# Altium footprint library APSS Connectors.PcbLib: 92 footprints (part 5 of 6)
Each footprint in its own frame and in the unit in brackets; x right, y up, seen from the top. Pads: shape width x height; smd on the part's side, far side on the other; paste and mask are expansions set on the pad; w line width, h text height; cw(c..) or ccw(c..) is an arc to the next point about the centre after c.
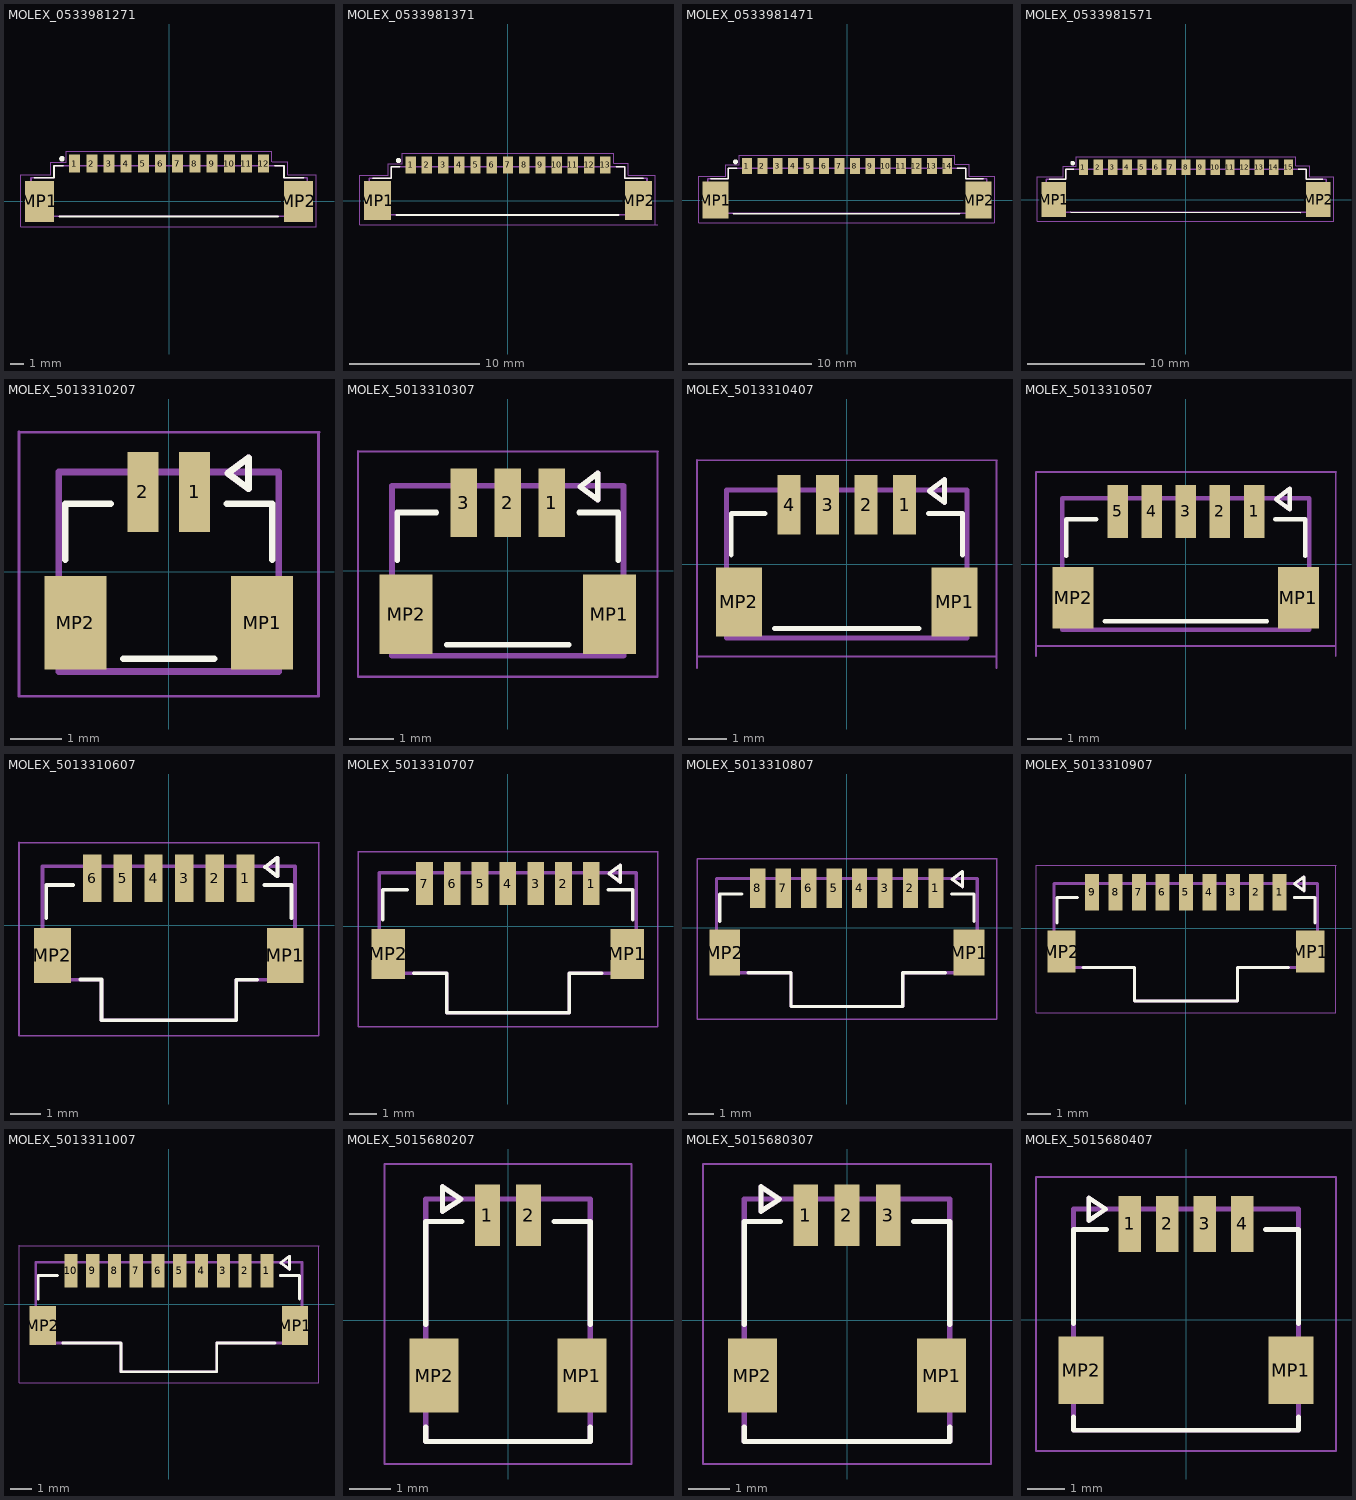
[diagram p4: the footprints below, top view; thin cyan lines are the x and y axes]

## MOLEX_0533981271 [mm] "Header - Picoblade 12-pin, SMT, STR, 4.7mm height"
height 4.7
pads (14):
  rect 0.8x1.3 smd mask+0.051: 1(-6.875,2.75) 2(-5.625,2.75) 3(-4.375,2.75) 4(-3.125,2.75) 5(-1.875,2.75) 6(-0.625,2.75) 7(0.625,2.75) 8(1.875,2.75) 9(3.125,2.75) 10(4.375,2.75) 11(5.625,2.75) 12(6.875,2.75)
  rect 2.1x3 smd mask+0.051: MP1(-9.425,0) MP2(9.405,0)
Top Overlay:
  circle w0.2: c-7.8,3.1 r0.1
  lines w0.127: -9.8,1.725 -8.375,1.725 -8.375,2.6 -7.7,2.6 ; -7.975,-1.1 7.925,-1.1 ; 7.68,2.6 8.355,2.6 8.355,1.725 9.78,1.725
Mechanical 13:
  lines w0.127: -7.8,2.6 8.355,2.6 ; -7.6,2.6 -8.375,2.6 -8.375,1.725 -10.05,1.725 -10.05,-1.075 10.05,-1.075 ; 7.48,2.6 8.355,2.6 ; 10.055,-1.075 10.055,1.725 8.355,1.725 8.355,2.6
Mechanical 15:
  lines w0.05: 7.475,3.65 -7.5,3.65 -7.5,2.85 -8.6,2.85 -8.6,1.95 -10.8,1.95 -10.8,-1.85 10.69,-1.85 10.69,1.95 8.63,1.95 8.63,2.9 7.49,2.9 ; 7.48,2.9 7.48,3.65
3D body "53398-1271--3DModel-STEP-361473.STEP": height 4.72, standoff -0.02, extent -10.075,-1.1 10.075,3.1

## MOLEX_0533981371 [mm] "Header - Picoblade 13-pin, SMT, STR, 4.7mm height"
height 4.7
pads (15):
  rect 0.8x1.3 smd mask+0.051: 1(-7.5,2.75) 2(-6.25,2.75) 3(-5,2.75) 4(-3.75,2.75) 5(-2.5,2.75) 6(-1.25,2.75) 7(0,2.75) 8(1.25,2.75) 9(2.5,2.75) 10(3.75,2.75) 11(5,2.75) 12(6.25,2.75) 13(7.5,2.75)
  rect 2.1x3 smd mask+0.051: MP1(-10.05,0) MP2(10.05,0)
Top Overlay:
  circle w0.2: c-8.425,3.1 r0.1
  lines w0.127: -10.425,1.725 -9,1.725 -9,2.6 -8.325,2.6 ; -8.6,-1.1 8.525,-1.1 ; 8.325,2.6 9,2.6 9,1.725 10.425,1.725
Mechanical 13:
  lines w0.127: -8.425,2.6 9,2.6 ; -8.225,2.6 -9,2.6 -9,1.725 -10.675,1.725 -10.675,-1.075 10.7,-1.075 10.7,1.725 9,1.725 9,2.6 ; 8.125,2.6 9,2.6
Mechanical 15:
  lines w0.05: 8.125,2.9 8.125,3.65 -8.125,3.65 -8.125,2.85 -9.225,2.85 -9.225,1.95 -11.425,1.95 -11.425,-1.85 11.525,-1.85 ; 8.135,2.9 9.275,2.9 9.275,1.95 11.335,1.95 11.335,-1.85
3D body "53398-1371--3DModel-STEP-361473.STEP": height 4.71, standoff -0.04, extent -10.7,-1.1 10.7,3.1

## MOLEX_0533981471 [mm] "Header - Picoblade 14-pin, SMT, STR, 4.7mm height"
height 4.7
pads (16):
  rect 0.8x1.3 smd mask+0.051: 1(-8.125,2.75) 2(-6.875,2.75) 3(-5.625,2.75) 4(-4.375,2.75) 5(-3.125,2.75) 6(-1.875,2.75) 7(-0.625,2.75) 8(0.625,2.75) 9(1.875,2.75) 10(3.125,2.75) 11(4.375,2.75) 12(5.625,2.75) 13(6.875,2.75) 14(8.125,2.75)
  rect 2.1x3 smd mask+0.051: MP1(-10.675,0) MP2(10.655,0)
Top Overlay:
  circle w0.2: c-9.05,3.1 r0.1
  lines w0.127: -11.05,1.725 -9.625,1.725 -9.625,2.6 -8.95,2.6 ; -9.225,-1.1 9.125,-1.1 ; 8.93,2.6 9.605,2.6 9.605,1.725 11.03,1.725
Mechanical 13:
  lines w0.127: 8.97,2.6 9.605,2.6 ; 11.32,-1.075 11.32,1.725 9.605,1.725 9.605,2.6 ; 11.325,-1.075 -11.3,-1.075 -11.3,1.725 -9.625,1.725 -9.625,2.6 -8.85,2.6 9.605,2.6
Mechanical 15:
  lines w0.05: 8.725,3.65 -8.75,3.65 -8.75,2.85 -9.85,2.85 -9.85,1.95 -12.05,1.95 -12.05,-1.85 11.95,-1.85 ; 8.73,3.65 8.73,2.9 9.905,2.9 9.905,1.95 11.955,1.95 11.955,-1.85
3D body "0533981471--3DModel-STEP-231308.STEP": height 4.72, standoff -0.02, extent -11.325,-1.075 11.325,3.125

## MOLEX_0533981571 [mm] "Header - Picoblade 15-pin, SMT, STR, 4.7mm height"
height 4.7
pads (17):
  rect 0.8x1.3 smd mask+0.051: 1(-8.75,2.75) 2(-7.5,2.75) 3(-6.25,2.75) 4(-5,2.75) 5(-3.75,2.75) 6(-2.5,2.75) 7(-1.25,2.75) 8(0,2.75) 9(1.25,2.75) 10(2.5,2.75) 11(3.75,2.75) 12(5,2.75) 13(6.25,2.75) 14(7.5,2.75) 15(8.75,2.75)
  rect 2.1x3 smd mask+0.051: MP1(-11.3,0) MP2(11.3,0)
Top Overlay:
  circle w0.2: c-9.675,3.1 r0.1
  lines w0.127: -11.675,1.725 -10.25,1.725 -10.25,2.6 -9.575,2.6 ; -9.85,-1.1 9.8,-1.125 ; 9.575,2.6 10.25,2.6 10.25,1.725 11.675,1.725
Mechanical 13:
  lines w0.127: 9.615,2.6 10.25,2.6 ; 11.965,-1.075 11.965,1.725 10.25,1.725 10.25,2.6 ; 12.175,-1.075 -11.925,-1.075 -11.925,1.725 -10.25,1.725 -10.25,2.6 -9.475,2.6 10.25,2.6
Mechanical 15:
  lines w0.05: -12.675,-1.85 12.6,-1.85 12.6,1.95 10.55,1.95 10.55,2.9 9.375,2.9 9.375,3.65 -9.375,3.65 -9.375,2.85 -10.475,2.85 -10.475,1.95 -12.675,1.95 -12.675,-1.85
3D body "0533981571.stp": height 4.71, standoff 0.01, extent -11.95,-1.1 11.95,3.1

## MOLEX_5013310207 [mm] "Header - Picoclasp 02-pin, SMT, STR, 5.54mm height"
height 5.54
pads (4):
  rect 0.6x1.55 smd mask+0.076: 1(0.5,1.54) 2(-0.5,1.54)
  rect 1.2x1.8 smd mask+0.076: MP1(1.8,-0.985) MP2(-1.8,-0.985)
Top Overlay:
  lines w0.127: -2,0.235 -2,1.315 -1.12,1.315 ; -0.88,-1.675 0.88,-1.675 ; 1.12,1.315 2,1.315 2,0.235 ; 1.14,1.9 1.54,1.6 1.54,2.2 1.14,1.9
Mechanical 13:
  lines w0.127: -2.12,-1.925 -2.12,1.925 2.12,1.925 2.12,-1.925 -2.12,-1.925 ; 1.14,1.9 1.54,1.6 1.54,2.2 1.14,1.9
Mechanical 15:
  lines w0.05: -2.89,2.695 2.9,2.695 ; -2.89,2.7 -2.89,-2.4 2.89,-2.4 2.89,2.695
3D body "5013310207.stp": height 5.54, standoff 0, extent -2.12,-1.9 2.12,1.95

## MOLEX_5013310307 [mm] "Header - Picoclasp 03-pin, SMT, STR, 5.54mm height"
height 5.54
pads (5):
  rect 0.6x1.55 smd mask+0.076: 1(1,1.54) 2(0,1.54) 3(-1,1.54)
  rect 1.2x1.8 smd mask+0.076: MP1(2.3,-0.985) MP2(-2.3,-0.985)
Top Overlay:
  lines w0.127: -2.5,0.235 -2.5,1.315 -1.62,1.315 ; -1.38,-1.675 1.38,-1.675 ; 1.62,1.315 2.5,1.315 2.5,0.235 ; 1.64,1.9 2.04,2.2 2.04,1.6 1.64,1.9
Mechanical 13:
  lines w0.127: -2.62,-1.925 -2.62,1.925 2.62,1.925 2.62,-1.925 -2.62,-1.925 ; 1.64,1.9 2.04,2.2 2.04,1.6 1.64,1.9
Mechanical 15:
  lines w0.05: -3.39,2.695 3.4,2.695 ; -3.39,2.7 -3.39,-2.4 3.39,-2.4 3.39,2.695
3D body "5013310307.stp": height 5.54, standoff 0, extent -2.62,-1.895 2.62,1.955

## MOLEX_5013310407 [mm] "Header - Picoclasp 04-pin, SMT, STR, 5.54mm height"
height 5.54
pads (6):
  rect 0.6x1.55 smd mask+0.076: 1(1.5,1.54) 2(0.5,1.54) 3(-0.5,1.54) 4(-1.5,1.54)
  rect 1.2x1.8 smd mask+0.076: MP1(2.8,-0.985) MP2(-2.8,-0.985)
Top Overlay:
  lines w0.127: -3,0.235 -3,1.315 -2.12,1.315 ; -1.88,-1.675 1.88,-1.675 ; 2.12,1.315 3,1.315 3,0.235 ; 2.14,1.9 2.54,1.6 2.54,2.2 2.14,1.9
Mechanical 13:
  lines w0.127: -3.12,-1.925 3.12,-1.925 3.12,1.925 -3.12,1.925 -3.12,-1.925 ; 2.14,1.9 2.54,1.6 2.54,2.2 2.14,1.9
Mechanical 15:
  lines w0.05: -3.89,-2.7 -3.89,2.7 ; -3.89,-2.4 3.89,-2.4 ; -3.89,2.695 3.9,2.695 ; 3.89,-2.7 3.89,2.695
3D body "5013310407.stp": height 5.54, standoff 0, extent -3.12,-1.925 3.12,1.925

## MOLEX_5013310507 [mm] "Header - Picoclasp 05-pin, SMT, STR, 5.54mm height"
height 5.54
pads (7):
  rect 0.6x1.55 smd mask+0.076: 1(2,1.54) 2(1,1.54) 3(0,1.54) 4(-1,1.54) 5(-2,1.54)
  rect 1.2x1.8 smd mask+0.076: MP1(3.3,-0.985) MP2(-3.3,-0.985)
Top Overlay:
  lines w0.127: -3.5,0.235 -3.5,1.315 -2.62,1.315 ; -2.38,-1.675 2.38,-1.675 ; 2.62,1.315 3.5,1.315 3.5,0.235 ; 2.64,1.9 3.04,1.6 3.04,2.2 2.64,1.9
Mechanical 13:
  lines w0.127: -3.62,-1.925 3.62,-1.925 3.62,1.925 -3.62,1.925 -3.62,-1.925 ; 2.64,1.9 3.04,1.6 3.04,2.2 2.64,1.9
Mechanical 15:
  lines w0.05: -4.39,-2.7 -4.39,2.7 ; -4.39,-2.4 4.39,-2.4 ; -4.39,2.695 4.4,2.695 ; 4.39,-2.7 4.39,2.695
3D body "5013310507.stp": height 5.54, standoff 0, extent -3.62,-1.895 3.62,1.955

## MOLEX_5013310607 [mm] "Header - Picoclasp 06-pin, SMT, STR, 5.54mm height"
height 5.54
pads (8):
  rect 0.6x1.55 smd mask+0.076: 1(2.5,1.54) 2(1.5,1.54) 3(0.5,1.54) 4(-0.5,1.54) 5(-1.5,1.54) 6(-2.5,1.54)
  rect 1.2x1.8 smd mask+0.076: MP1(3.8,-0.985) MP2(-3.8,-0.985)
Top Overlay:
  lines w0.127: -4,0.235 -4,1.315 -3.12,1.315 ; -2.88,-1.778 -2.2,-1.778 -2.2,-3.1 2.2,-3.1 2.2,-1.78 2.88,-1.78 ; 3.12,1.315 4,1.315 4,0.235 ; 3.14,1.9 3.54,1.6 3.54,2.2 3.14,1.9
Mechanical 13:
  lines w0.127: -4.12,-1.78 -4.12,1.925 4.12,1.925 4.12,-1.78 2.2,-1.78 2.2,-3.1 -2.2,-3.1 -2.2,-1.78 -4.12,-1.78 ; 3.14,1.9 3.54,1.6 3.54,2.2 3.14,1.9
Mechanical 15:
  lines w0.05: -4.89,2.695 4.9,2.695 ; -4.89,2.7 -4.89,-3.6 4.89,-3.6 4.89,2.695
3D body "5013310607.stp": height 5.54, standoff 0, extent -4.12,-3.41 4.12,1.925

## MOLEX_5013310707 [mm] "Header - Picoclasp 07-pin, SMT, STR, 5.54mm height"
height 5.54
pads (9):
  rect 0.6x1.55 smd mask+0.076: 1(3,1.54) 2(2,1.54) 3(1,1.54) 4(0,1.54) 5(-1,1.54) 6(-2,1.54) 7(-3,1.54)
  rect 1.2x1.8 smd mask+0.076: MP1(4.3,-0.985) MP2(-4.3,-0.985)
Top Overlay:
  lines w0.127: -4.5,0.235 -4.5,1.315 -3.62,1.315 ; -3.38,-1.675 -2.2,-1.675 -2.2,-3.1 2.2,-3.1 2.2,-1.675 3.38,-1.675 ; 3.62,1.315 4.5,1.315 4.5,0.235 ; 3.64,1.9 4.04,1.6 4.04,2.2 3.64,1.9
Mechanical 13:
  lines w0.127: -2.2,-3.1 -0.885,-3.1 0.885,-3.1 2.2,-3.1 ; -2.2,-3.1 -2.2,-1.675 ; -2.2,-3.1 -2.2,-1.675 ; -2.2,-3.1 2.2,-3.1 ; -2.2,-1.675 -4.62,-1.675 -4.62,1.925 4.62,1.925 4.62,-1.675 2.2,-1.675 ; 2.2,-3.1 2.2,-1.675 ; 2.2,-3.1 2.2,-1.675 ; 3.64,1.9 4.04,1.6 4.04,2.2 3.64,1.9
Mechanical 15:
  lines w0.05: -5.39,2.695 5.4,2.695 ; -5.39,2.7 -5.39,-3.6 5.39,-3.6 5.39,2.695
3D body "5013310707.stp": height 5.54, standoff 0, extent -4.62,-3.41 4.62,1.925

## MOLEX_5013310807 [mm] "Header - Picoclasp 08-pin, SMT, STR, 5.54mm height"
height 5.54
pads (10):
  rect 0.6x1.55 smd mask+0.076: 1(3.5,1.54) 2(2.5,1.54) 3(1.5,1.54) 4(0.5,1.54) 5(-0.5,1.54) 6(-1.5,1.54) 7(-2.5,1.54) 8(-3.5,1.54)
  rect 1.2x1.8 smd mask+0.076: MP1(4.8,-0.985) MP2(-4.8,-0.985)
Top Overlay:
  lines w0.127: -5,0.235 -5,1.315 -4.12,1.315 ; -3.88,-1.778 -2.2,-1.78 ; -2.2,-1.778 -2.2,-3.1 2.2,-3.1 2.2,-1.78 ; 2.2,-1.78 3.88,-1.78 ; 4.12,1.315 5,1.315 5,0.235 ; 4.14,1.9 4.54,2.2 4.54,1.6 4.14,1.9
Mechanical 13:
  lines w0.127: -5.12,-1.78 -2.2,-1.78 -2.2,-3.1 2.2,-3.1 2.2,-1.78 5.12,-1.78 5.12,1.925 -5.12,1.925 -5.12,-1.78 ; 4.14,1.9 4.54,2.2 4.54,1.6 4.14,1.9
Mechanical 15:
  lines w0.05: -5.89,2.695 5.9,2.695 ; -5.89,2.7 -5.89,-3.6 5.89,-3.6 5.89,2.695
3D body "5013310807.stp": height 5.54, standoff 0, extent -5.12,-3.41 5.12,1.925

## MOLEX_5013310907 [mm] "Header - Picoclasp 09-pin, SMT, STR, 5.54mm height"
height 5.54
pads (11):
  rect 0.6x1.55 smd mask+0.076: 1(4,1.54) 2(3,1.54) 3(2,1.54) 4(1,1.54) 5(0,1.54) 6(-1,1.54) 7(-2,1.54) 8(-3,1.54) 9(-4,1.54)
  rect 1.2x1.8 smd mask+0.076: MP1(5.3,-0.985) MP2(-5.3,-0.985)
Top Overlay:
  lines w0.127: -5.5,0.235 -5.5,1.315 -4.62,1.315 ; -4.38,-1.675 -2.2,-1.675 ; -3.38,-1.675 -2.2,-1.675 ; 3.38,-1.675 2.2,-1.675 ; 4.38,-1.675 2.2,-1.675 ; 4.62,1.315 5.5,1.315 5.5,0.235 ; -2.2,-1.675 -2.2,-3.1 2.2,-3.1 2.2,-1.675 ; 4.64,1.9 5.04,1.6 5.04,2.2 4.64,1.9
Mechanical 13:
  lines w0.127: -2.2,-3.1 2.2,-3.1 ; -2.2,-3.1 -2.2,-1.675 ; -2.2,-3.1 -2.2,-1.675 ; -2.2,-3.1 -0.885,-3.1 0.885,-3.1 2.2,-3.1 ; -2.2,-1.675 -5.62,-1.675 -5.62,1.925 5.62,1.925 5.62,-1.675 2.2,-1.675 ; 2.2,-3.1 2.2,-1.675 ; 2.2,-3.1 2.2,-1.675 ; 4.64,1.9 5.04,1.6 5.04,2.2 4.64,1.9
Mechanical 15:
  lines w0.05: -6.39,2.695 6.4,2.695 ; -6.39,2.7 -6.39,-3.6 6.39,-3.6 6.39,2.695
3D body "5013310907.stp": height 5.54, standoff 0, extent -5.64,-3.435 5.6,1.9

## MOLEX_5013311007 [mm] "Header - Picoclasp 10-pin, SMT, STR, 5.54mm height"
height 5.54
pads (12):
  rect 0.6x1.55 smd mask+0.076: 1(4.5,1.54) 2(3.5,1.54) 3(2.5,1.54) 4(1.5,1.54) 5(0.5,1.54) 6(-0.5,1.54) 7(-1.5,1.54) 8(-2.5,1.54) 9(-3.5,1.54) 10(-4.5,1.54)
  rect 1.2x1.8 smd mask+0.076: MP1(5.8,-0.985) MP2(-5.8,-0.985)
Top Overlay:
  lines w0.127: -6,0.235 -6,1.315 -5.12,1.315 ; -4.88,-1.778 -2.2,-1.778 -2.2,-3.1 2.2,-3.1 2.2,-1.78 4.88,-1.78 ; 5.12,1.315 6,1.315 6,0.235 ; 5.14,1.9 5.54,2.2 5.54,1.6 5.14,1.9
Mechanical 13:
  lines w0.127: -6.12,-1.78 -2.2,-1.78 -2.2,-3.1 2.2,-3.1 2.2,-1.78 6.12,-1.78 6.12,1.925 -6.12,1.925 -6.12,-1.78 ; 5.14,1.9 5.54,2.2 5.54,1.6 5.14,1.9
Mechanical 15:
  lines w0.05: -6.89,2.695 6.9,2.695 ; -6.89,2.7 -6.89,-3.6 6.89,-3.6 6.89,2.695
3D body "5013311007.stp": height 5.54, standoff 0, extent -6.12,-3.41 6.12,1.925

## MOLEX_5015680207 [mm] "Header - Picoclasp 02-pin, SMT, RA, 3.2mm height"
height 3.2
pads (4):
  rect 0.6x1.5 smd mask+0.076: 1(-0.5,2.55) 2(0.5,2.55)
  rect 1.2x1.8 smd mask+0.076: MP1(1.8,-1.35) MP2(-1.8,-1.35)
Top Overlay:
  lines w0.127: -2,-2.6 -2,-2.95 2,-2.95 2,-2.6 ; -2,-0.1 -2,2.4 -1.12,2.4 ; 1.12,2.4 2,2.4 2,-0.1 ; -1.591,2.646 -1.141,2.946 -1.591,3.246 -1.591,2.646
Mechanical 13:
  lines w0.127: -2,-2.95 -2,2.95 2,2.95 2,-2.95 -2,-2.95 ; -1.591,2.646 -1.141,2.946 -1.591,3.246 -1.591,2.646
Mechanical 15:
  lines w0.05: -3,-3.5 3,-3.5 3,3.8 -3,3.8 -3,-3.5
3D body "5015680207.stp": height 3.19, standoff -0.01, extent -2,-2.95 2,2.95

## MOLEX_5015680307 [mm] "Header - Picoclasp 03-pin, SMT, RA, 3.2mm height"
height 3.2
pads (5):
  rect 0.6x1.5 smd mask+0.076: 1(-1,2.55) 2(0,2.55) 3(1,2.55)
  rect 1.2x1.8 smd mask+0.076: MP1(2.3,-1.35) MP2(-2.3,-1.35)
Top Overlay:
  lines w0.127: -2.5,-2.6 -2.5,-2.95 2.5,-2.95 2.5,-2.6 ; -2.5,-0.1 -2.5,2.4 -1.62,2.4 ; 1.62,2.4 2.5,2.4 2.5,-0.1 ; -2.091,2.646 -2.091,3.246 -1.641,2.946 -2.091,2.646
Mechanical 13:
  lines w0.127: -2.5,-2.95 2.5,-2.95 2.5,2.95 -2.5,2.95 -2.5,-2.95 ; -2.091,2.646 -2.091,3.246 -1.641,2.946 -2.091,2.646
Mechanical 15:
  lines w0.05: -3.5,-3.5 -3.5,3.8 3.5,3.8 3.5,-3.5 -3.5,-3.5
3D body "5015680307.stp": height 3.19, standoff -0.01, extent -2.5,-2.95 2.5,2.95

## MOLEX_5015680407 [mm] "Header - Picoclasp 04-pin, SMT, RA, 3.2mm height"
height 3.2
pads (6):
  rect 0.6x1.5 smd mask+0.076: 1(-1.5,2.55) 2(-0.5,2.55) 3(0.5,2.55) 4(1.5,2.55)
  rect 1.2x1.8 smd mask+0.076: MP1(2.8,-1.35) MP2(-2.8,-1.35)
Top Overlay:
  lines w0.127: -3,-2.6 -3,-2.95 3,-2.95 3,-2.6 ; -3,-0.1 -3,2.4 -2.12,2.4 ; 2.12,2.4 3,2.4 3,-0.1 ; -2.591,2.646 -2.141,2.946 -2.591,3.246 -2.591,2.646
Mechanical 13:
  lines w0.127: -3,-2.95 -3,2.95 3,2.95 3,-2.95 -3,-2.95 ; -2.591,2.646 -2.141,2.946 -2.591,3.246 -2.591,2.646
Mechanical 15:
  lines w0.05: -4,-3.5 4,-3.5 4,3.8 -4,3.8 -4,-3.5
3D body "5015680407.stp": height 3.19, standoff -0.01, extent -3,-2.95 3,2.95